# Altium footprint library CONN_SM04B_JST.PcbLib: 1 footprints
Each footprint in its own frame and in the unit in brackets; x right, y up, seen from the top. Pads: shape width x height; smd on the part's side, far side on the other; paste and mask are expansions set on the pad; w line width, h text height; cw(c..) or ccw(c..) is an arc to the next point about the centre after c.
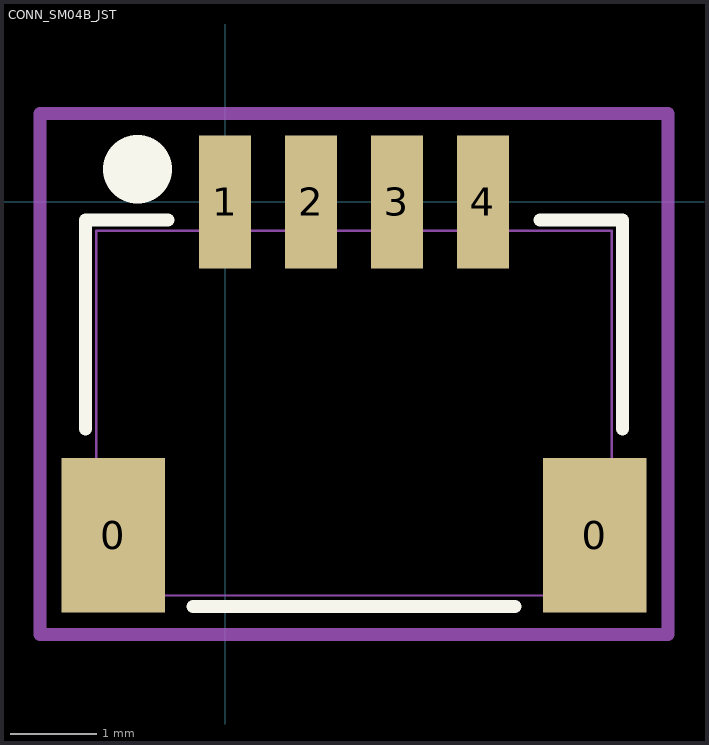
[diagram p0: the footprint, top view; thin cyan lines are the x and y axes]

## CONN_SM04B_JST [mm]
pads (6):
  rect 1.2x1.8 smd: 0(-1.3,-3.875) 0(4.3,-3.875)
  rect 0.6x1.55 smd: 1(0,0) 2(1,0) 3(2,0) 4(3,0)
Top Overlay:
  circle w0.8: c-1.016,0.381 r0
  lines w0.152: -1.624,-2.641 -1.624,-0.208 -0.663,-0.208 ; -0.37,-4.704 3.37,-4.704 ; 3.663,-0.208 4.624,-0.208 4.624,-2.641
Mechanical 13:
  lines w0.025: -1.497,-4.577 -1.497,-0.335 4.497,-0.335 4.497,-4.577 -1.497,-4.577
Mechanical 15:
  lines w0.152: -2.151,-5.031 5.151,-5.031 5.151,1.029 -2.151,1.029 -2.151,-5.031
3D body: height 0.25, standoff 0, extent 0,0 0.254,0.254
3D body "SM04B-SRSS-TB.STEP": height 2.96, standoff 0, extent -1.497,-4.577 4.503,0.373